# EAGLE library part SN74LVC3G17 (library bschulz)
SN74LVC3G17 - Triple Schmitt Trigger Logic Buffer Characteristics: VCC: 1.65~5.5V Operating Temperature: -40°C to 125°C Number of Gates: 3 Inverting: No 5V Tolerent Input (Down Shift) Digikey: 296-16915-1-ND (SM8, DCT) <https://www.digikey.com/en/products/detail/texas-instruments/SN74LVC3G17DCTR/644202>
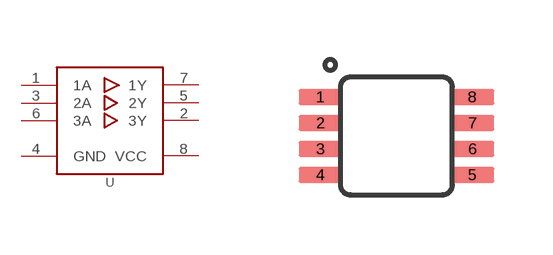
[diagram p190: symbol with the pads of DCT0008A; footprint DCT0008A]

Designator prefix U

## SN74LVC3G17DCT (DIGIKEY: 296-16915-1-ND; DISP: SN74LVC3G17; MF: TI; MPN: SN74LVC3G17DCTR)  [DCT0008A]
1  1A  in
2  3Y  out
3  2A  in
4  GND  pwr
5  2Y  out
6  3A  in
7  1Y  out
8  VCC  pwr

## Footprint DCT0008A (pad centres in mm)
SSOP, 0.65mm pitch, 8 pin Datasheet <https://www.ti.com/general/docs/suppproductinfo.tsp?distId=10&gotoUrl=https%3A%2F%2Fwww.ti.com%2Flit%2Fgpn%2Ftxs0102>
smd 1.1 x 0.4: 1 -1.9,0.975; 2 -1.9,0.325; 3 -1.9,-0.325; 4 -1.9,-0.975; 5 1.9,-0.975; 6 1.9,-0.325; 7 1.9,0.325; 8 1.9,0.975